# Altium footprint library CGA3E3X7R1H474K080AB.PcbLib: 3 footprints
Each footprint in its own frame and in the unit in brackets; x right, y up, seen from the top. Pads: shape width x height; smd on the part's side, far side on the other; paste and mask are expansions set on the pad; w line width, h text height; cw(c..) or ccw(c..) is an arc to the next point about the centre after c.
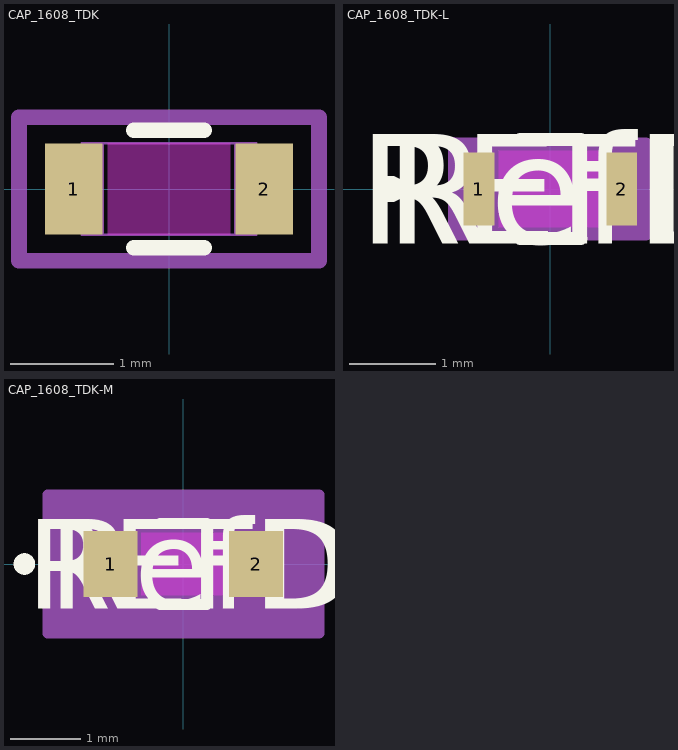
[diagram p0: the footprints below, top view; thin cyan lines are the x and y axes]

## CAP_1608_TDK [mil]
pads (2):
  rect 22x35 smd paste+0 mask+0: 1(-36.5,0) 2(36.5,0)
Top Layer keep-out:
  region: -23.5,-15.5 -23.5,15.5 23.5,15.5 23.5,-15.5
Top Overlay:
  lines w6: -13.39,-22.5 13.39,-22.5 ; -13.39,22.5 13.39,22.5
Keep-Out Layer:
  region: -23.5,-17.5 -23.5,17.5 23.5,17.5 23.5,-17.5
Mechanical 13:
  circle w0: c-31.5,0 r3
  lines w1: -33.5,-17.5 -33.5,17.5 ; -33.5,-17.5 33.5,-17.5 ; -33.5,-17.5 -25.5,-17.5 -25.5,17.5 -33.5,17.5 ; -33.5,-17.5 -33.5,17.5 ; -33.5,17.5 33.5,17.5 ; 33.5,-17.5 33.5,17.5 ; 33.5,-17.5 33.5,17.5 ; 33.5,-17.5 25.5,-17.5 25.5,17.5 33.5,17.5
Mechanical 15:
  lines w6: -57.5,-27.5 57.5,-27.5 57.5,27.5 -57.5,27.5 -57.5,-27.5
3D body "CAP_1608_TDK.step": height 35, standoff 0, extent -33.5,-17.48 33.5,17.48

## CAP_1608_TDK-L [mil]
pads (2):
  rect 14x33 smd paste+0 mask+0: 1(-32.5,0) 2(32.5,0)
Top Layer keep-out:
  region: -23.5,-15.5 -23.5,15.5 23.5,15.5 23.5,-15.5
Top Overlay:
  circle w6: c-72.5,0 r3
  lines w6: -13.85,-22.5 13.85,-22.5 ; -13.85,22.5 13.85,22.5
  text "REFDES" at -87.5,-25 h50
  text "RefDes" at -75,-25 h50
Keep-Out Layer:
  region: -23.5,-17.5 -23.5,17.5 23.5,17.5 23.5,-17.5
Mechanical 13:
  circle w0: c-27.5,0 r3
  lines w1: -33.5,-17.5 -33.5,17.5 ; -33.5,-17.5 33.5,-17.5 ; -33.5,-17.5 -25.5,-17.5 -25.5,17.5 -33.5,17.5 ; -33.5,-17.5 -33.5,17.5 ; -33.5,17.5 33.5,17.5 ; 33.5,-17.5 33.5,17.5 ; 33.5,-17.5 33.5,17.5 ; 33.5,-17.5 25.5,-17.5 25.5,17.5 33.5,17.5
  text "RefDes2" at -87.5,-25 h50
Mechanical 15:
  region: 43.5,-20.5 -43.5,-20.5 -43.5,20.5 43.5,20.5
  lines w6: -43.5,-20.5 43.5,-20.5 43.5,20.5 -43.5,20.5 -43.5,-20.5
3D body "CAP_1608_TDK.step": height 35, standoff 0, extent -33.5,-17.48 33.5,17.48

## CAP_1608_TDK-M [mil]
pads (2):
  rect 30x37 smd paste+0 mask+0: 1(-40.5,0) 2(40.5,0)
Top Layer keep-out:
  region: -23.5,-15.5 -23.5,15.5 23.5,15.5 23.5,-15.5
Top Overlay:
  circle w6: c-88.5,0 r3
  lines w6: -13.03,-22.5 13.03,-22.5 ; -13.03,22.5 13.03,22.5
  text "RefDes" at -75,-25 h50
  text "REFDES" at -87.5,-25 h50
Keep-Out Layer:
  region: -23.5,-17.5 -23.5,17.5 23.5,17.5 23.5,-17.5
Mechanical 13:
  circle w0: c-35.5,0 r3
  lines w1: -33.5,-17.5 -33.5,17.5 ; -33.5,-17.5 -25.5,-17.5 -25.5,17.5 -33.5,17.5 ; -33.5,-17.5 33.5,-17.5 ; -33.5,-17.5 -33.5,17.5 ; -33.5,17.5 33.5,17.5 ; 33.5,-17.5 25.5,-17.5 25.5,17.5 33.5,17.5 ; 33.5,-17.5 33.5,17.5 ; 33.5,-17.5 33.5,17.5
  text "RefDes2" at -87.5,-25 h50
Mechanical 15:
  region: 75.5,-38.5 -75.5,-38.5 -75.5,38.5 75.5,38.5
  lines w6: -75.5,-38.5 -75.5,38.5 75.5,38.5 75.5,-38.5 -75.5,-38.5
3D body "CAP_1608_TDK.step": height 35, standoff 0, extent -33.5,-17.48 33.5,17.48